# EAGLE library part PCA9622DR (library led_drivers)
16-bit Fm+ I2C-bus 100 mA 40 V LED driver
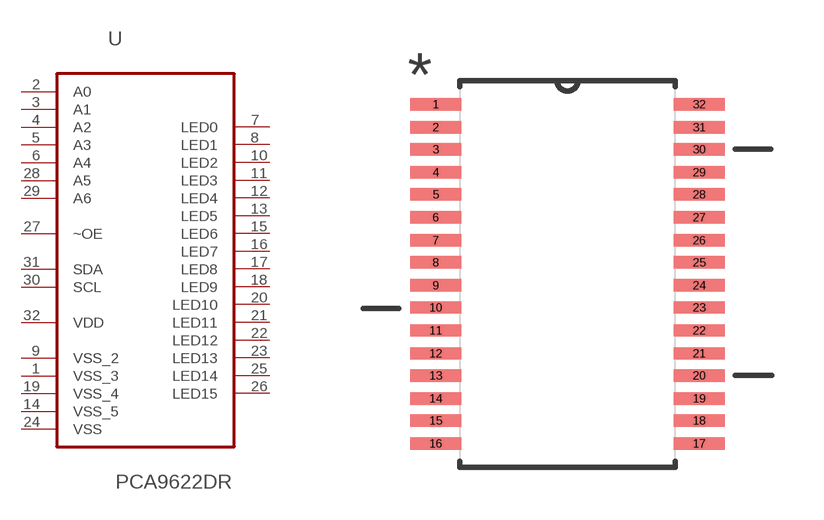
[diagram p0: symbol with the pads of SOP65P810X110-32N; footprint SOP65P810X110-32N]

Designator prefix U

## PCA9622DR (MPN: PCA9622DR; OC_FARNELL: 1854075; OC_NEWARK: 30T3001; PACKAGE: 32-TSSOP; SUPPLIER: NXP)  [SOP65P810X110-32N]
1  VSS_3  pas
2  A0  in
3  A1  in
4  A2  in
5  A3  in
6  A4  in
7  LED0  out
8  LED1  out
9  VSS_2  pas
10  LED2  out
11  LED3  out
12  LED4  out
13  LED5  out
14  VSS_5  pas
15  LED6  out
16  LED7  out
17  LED8  out
18  LED9  out
19  VSS_4  pas
20  LED10  out
21  LED11  out
22  LED12  out
23  LED13  out
24  VSS  pas
25  LED14  out
26  LED15  out
27  ~OE  in
28  A5  in
29  A6  in
30  SCL  in
31  SDA
32  VDD  pwr

## Footprint SOP65P810X110-32N (pad centres in mm)
smd 1.473 x 0.356: 1 -3.785,4.877; 2 -3.785,4.216; 3 -3.785,3.581; 4 -3.785,2.921; 5 -3.785,2.286; 6 -3.785,1.626; 7 -3.785,0.965; 8 -3.785,0.33; 9 -3.785,-0.33; 10 -3.785,-0.965; 11 -3.785,-1.626; 12 -3.785,-2.286; 13 -3.785,-2.921; 14 -3.785,-3.581; 15 -3.785,-4.216; 16 -3.785,-4.877; 17 3.785,-4.877; 18 3.785,-4.216; 19 3.785,-3.581; 20 3.785,-2.921; 21 3.785,-2.286; 22 3.785,-1.626; 23 3.785,-0.965; 24 3.785,-0.33; 25 3.785,0.33; 26 3.785,0.965; 27 3.785,1.626; 28 3.785,2.286; 29 3.785,2.921; 30 3.785,3.581; 31 3.785,4.216; 32 3.785,4.877